# EAGLE library part AFE4400RHAR (library AFE4400RHAR)
Integrated Analog Front End (AFE) for Heart-Rate Monitors and Low-Cost Pulse Oximeters Source: Datasheet <http://www.ti.com/lit/ds/symlink/afe4400.pdf>
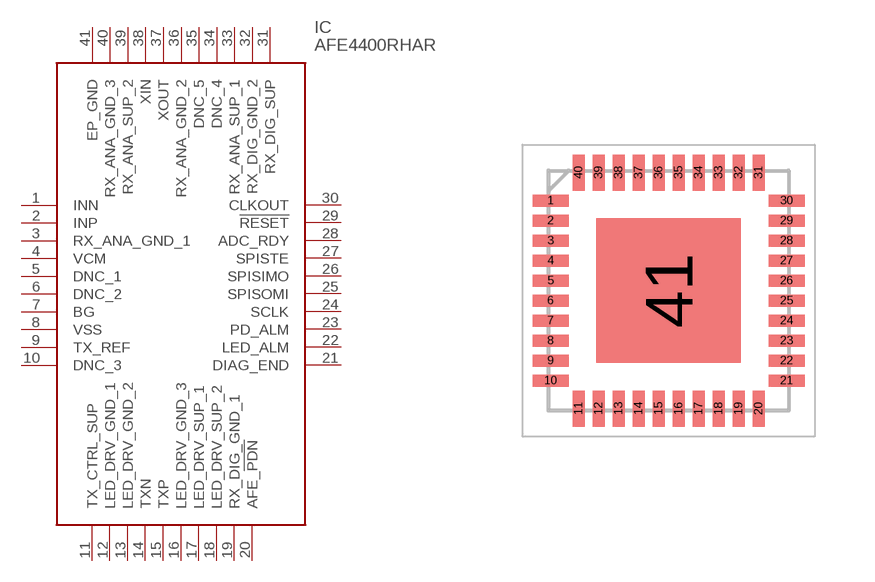
[diagram p0: symbol with the pads of QFN50P600X600X100-41N; footprint QFN50P600X600X100-41N]

Designator prefix IC

## AFE4400RHAR (DESCRIPTION: Integrated Analog Front End (AFE) for Heart-Rate Monitors and Low-Cost Pulse Oximeters; HEIGHT: 1mm; MANUFACTURER_NAME: Texas Instruments; MANUFACTURER_PART_NUMBER: AFE4400RHAR; MOUSER_PART_NUMBER: 595-AFE4400RHAR; MOUSER_PRICE-STOCK: https://www.mouser.co.uk/ProductDetail/Texas-Instruments/AFE4400RHAR?qs=MURVExHfc2zl%2FM9SqCv0pw%3D%3D)  [QFN50P600X600X100-41N]
1  INN  in
2  INP  in
3  RX_ANA_GND_1  pwr
4  VCM
5  DNC_1
6  DNC_2
7  BG
8  VSS  pwr
9  TX_REF  in
10  DNC_3
11  TX_CTRL_SUP
12  LED_DRV_GND_1  pwr
13  LED_DRV_GND_2  pwr
14  TXN
15  TXP
16  LED_DRV_GND_3  pwr
17  LED_DRV_SUP_1
18  LED_DRV_SUP_2
19  RX_DIG_GND_1  pwr
20  AFE_!PDN
21  DIAG_END
22  LED_ALM
23  PD_ALM
24  SCLK  in
25  SPISOMI
26  SPISIMO
27  SPISTE
28  ADC_RDY
29  !RESET
30  CLKOUT  out
31  RX_DIG_SUP
32  RX_DIG_GND_2  pwr
33  RX_ANA_SUP_1
34  DNC_4
35  DNC_5
36  RX_ANA_GND_2  pwr
37  XOUT  out
38  XIN  in
39  RX_ANA_SUP_2
40  RX_ANA_GND_3  pwr
41  EP_GND  pwr

## Footprint QFN50P600X600X100-41N (pad centres in mm)
Rha (s-pvqfn-n40)
smd 0.9 x 0.3: 1 -2.95,2.25; 2 -2.95,1.75; 3 -2.95,1.25; 4 -2.95,0.75; 5 -2.95,0.25; 6 -2.95,-0.25; 7 -2.95,-0.75; 8 -2.95,-1.25; 9 -2.95,-1.75; 10 -2.95,-2.25; 21 2.95,-2.25; 22 2.95,-1.75; 23 2.95,-1.25; 24 2.95,-0.75; 25 2.95,-0.25; 26 2.95,0.25; 27 2.95,0.75; 28 2.95,1.25; 29 2.95,1.75; 30 2.95,2.25
smd 0.3 x 0.9: 11 -2.25,-2.95; 12 -1.75,-2.95; 13 -1.25,-2.95; 14 -0.75,-2.95; 15 -0.25,-2.95; 16 0.25,-2.95; 17 0.75,-2.95; 18 1.25,-2.95; 19 1.75,-2.95; 20 2.25,-2.95; 31 2.25,2.95; 32 1.75,2.95; 33 1.25,2.95; 34 0.75,2.95; 35 0.25,2.95; 36 -0.25,2.95; 37 -0.75,2.95; 38 -1.25,2.95; 39 -1.75,2.95; 40 -2.25,2.95
smd 3.607 x 3.607: 41 0,0